# EAGLE library part TSM-107-SV (library con-samtec)
SMD PIN HEADER
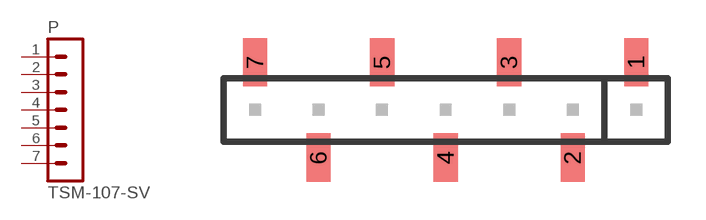
[diagram p1: symbol with the pads of TSM-107-SV; footprint TSM-107-SV]

Designator prefix P

## TSM-107-SV  [TSM-107-SV]
1  1  pas
2  2  pas
3  3  pas
4  4  pas
5  5  pas
6  6  pas
7  7  pas

## Footprint TSM-107-SV (pad centres in mm)
SMD PIN HEADER - 0.1"
smd 0.965 x 1.93: 1 7.62,1.905; 2 5.08,-1.905; 3 2.54,1.905; 4 0,-1.905; 5 -2.54,1.905; 6 -5.08,-1.905; 7 -7.62,1.905